# Altium schematic symbol library FK750M1模块-原理图库-V1.1.SchLib: 1 symbol
Pins are listed as number, name and electrical type; pins without a type are passive.

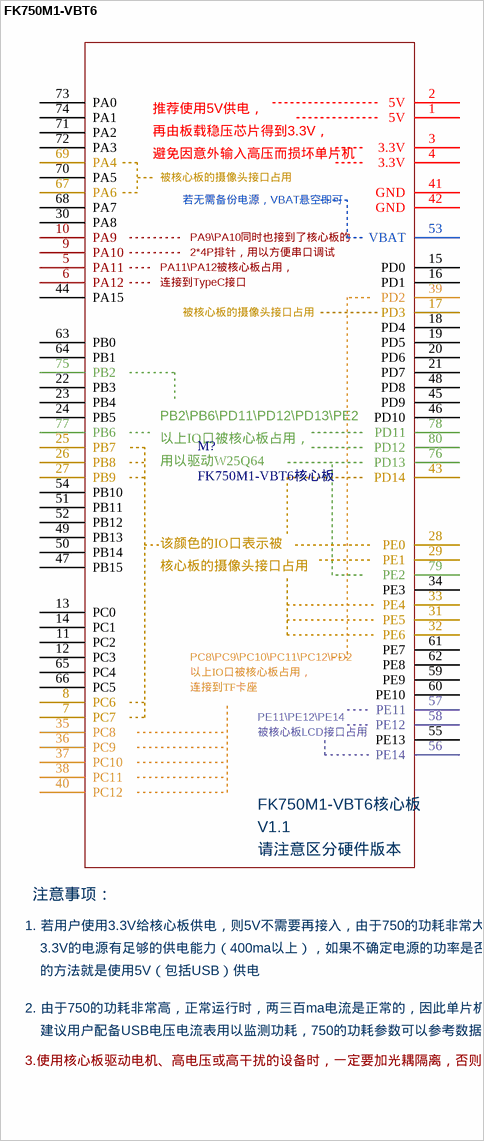
[diagram p0: symbol FK750M1-VBT6]

## FK750M1-VBT6
designator M?, comment FK750M1-VBT6核心板
footprint FK750M1-VBT6
pins: 1 5V, 2 5V, 3 3.3V, 4 3.3V, 5 PA11, 6 PA12, 7 PC7, 8 PC6, 9 PA10, 10 PA9, 11 PC2, 12 PC3, 13 PC0, 14 PC1, 15 PD0, 16 PD1, 17 PD3, 18 PD4, 19 PD5, 20 PD6, 21 PD7, 22 PB3, 23 PB4, 24 PB5, 25 PB7, 26 PB8, 27 PB9, 28 PE0, 29 PE1, 30 PA8, 31 PE5, 32 PE6, 33 PE4, 34 PE3, 35 PC8, 36 PC9, 37 PC10, 38 PC11, 39 PD2, 40 PC12, 41 GND, 42 GND, 43 PD14, 44 PA15, 45 PD9, 46 PD10, 47 PB15, 48 PD8, 49 PB13, 50 PB14, 51 PB11, 52 PB12, 53 VBAT, 54 PB10, 55 PE13, 56 PE14, 57 PE11, 58 PE12, 59 PE9, 60 PE10, 61 PE7, 62 PE8, 63 PB0, 64 PB1, 65 PC4, 66 PC5, 67 PA6, 68 PA7, 69 PA4, 70 PA5, 71 PA2, 72 PA3, 73 PA0, 74 PA1, 75 PB2, 76 PD13, 77 PB6, 78 PD11, 79 PE2, 80 PD12
text: 推荐使用5V供电，; 再由板载稳压芯片得到3.3V，; 避免因意外输入高压而损坏单片机; 被核心板的摄像头接口占用; 若无需备份电源，VBAT悬空即可; PA9\PA10同时也接到了核心板的; 2*4P排针，用以方便串口调试; PA11\PA12被核心板占用，; 连接到TypeC接口; PB2\PB6\PD11\PD12\PD13\PE2; 以上IO口被核心板占用，; 用以驱动W25Q64; 该颜色的IO口表示被; 核心板的摄像头接口占用; PC8\PC9\PC10\PC11\PC12\PD2; 连接到TF卡座; PE11\PE12\PE14; 被核心板LCD接口占用; V1.1; 请注意区分硬件版本; 注意事项：; 1. 若用户使用3.3V给核心板供电，则5V不需要再接入，由于750的功耗非常大，必须要确保; 3.3V的电源有足够的供电能力（400ma以上），如果不确定电源的功率是否足够，最简单; 的方法就是使用5V（包括USB）供电; 2. 由于750的功耗非常高，正常运行时，两三百ma电流是正常的，因此单片机发热会很严重，; 建议用户配备USB电压电流表用以监测功耗，750的功耗参数可以参考数据手册的相关说明; 3.使用核心板驱动电机、高电压或高干扰的设备时，一定要加光耦隔离，否则很容易损坏单片机！！！